# EAGLE library part TS3A44159 (library magzor)
TI TS3A44159 quad SPDT analog switch, 4 channel 2:1 mux-demux with 2 controls
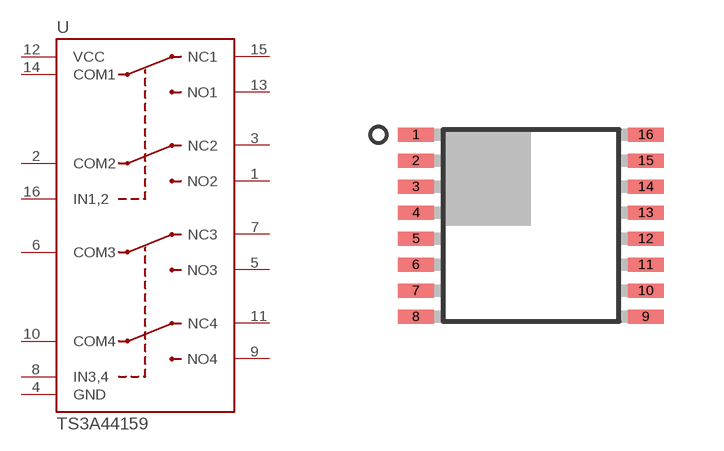
[diagram p44: symbol with the pads of TSSOP16; footprint TSSOP16]

Designator prefix U

## TS3A44159PW  [TSSOP16]
1  NO2
2  COM2
3  NC2
4  GND
5  NO3
6  COM3
7  NC3
8  IN3,4
9  NO4
10  COM4
11  NC4
12  VCC
13  NO1
14  COM1
15  NC1
16  IN1,2

## Footprint TSSOP16 (pad centres in mm)
smd 0.9 x 0.35: 1 -2.875,2.275; 2 -2.875,1.625; 3 -2.875,0.975; 4 -2.875,0.325; 5 -2.875,-0.325; 6 -2.875,-0.975; 7 -2.875,-1.625; 8 -2.875,-2.275; 9 2.875,-2.275; 10 2.875,-1.625; 11 2.875,-0.975; 12 2.875,-0.325; 13 2.875,0.325; 14 2.875,0.975; 15 2.875,1.625; 16 2.875,2.275